# EAGLE library part RRFQ1-* (library telecontrolli)
FSK Superhet Receiver with Crystal Oscillator Source: http://www.telecontrolli.com/eng/default-wproducts.html ... rrfq1.pdf
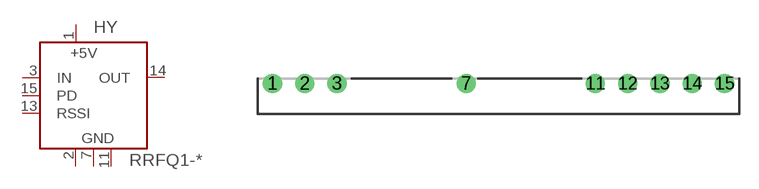
[diagram p0: symbol with the pads of RRFQ1; footprint RRFQ1]

Designator prefix HY

## RRFQ1- (MPN: FM-RRFQ1-868; OC_FARNELL: 1201003; OC_NEWARK: 01M7854)  [RRFQ1]
1  +5V  pwr
2  GND  pwr
3  IN  in
7  GND  pwr
11  GND  pwr
13  RSSI  in
14  OUT  out
15  PD  in

## Footprint RRFQ1 (pad centres in mm)
Ceramic Hybrid Package Source: http://www.telecontrolli.com/eng/default-wproducts.html ... rrfq1.pdf
drill 1 pad 1.422 round: 1 -17.78,0; 2 -15.24,0; 3 -12.7,0; 7 -2.54,0; 11 7.62,0; 12 10.16,0; 13 12.7,0; 14 15.24,0; 15 17.78,0